# Altium integrated library Header.IntLib: 35 symbols
Pins are listed as number, name and electrical type; pins without a type are passive.

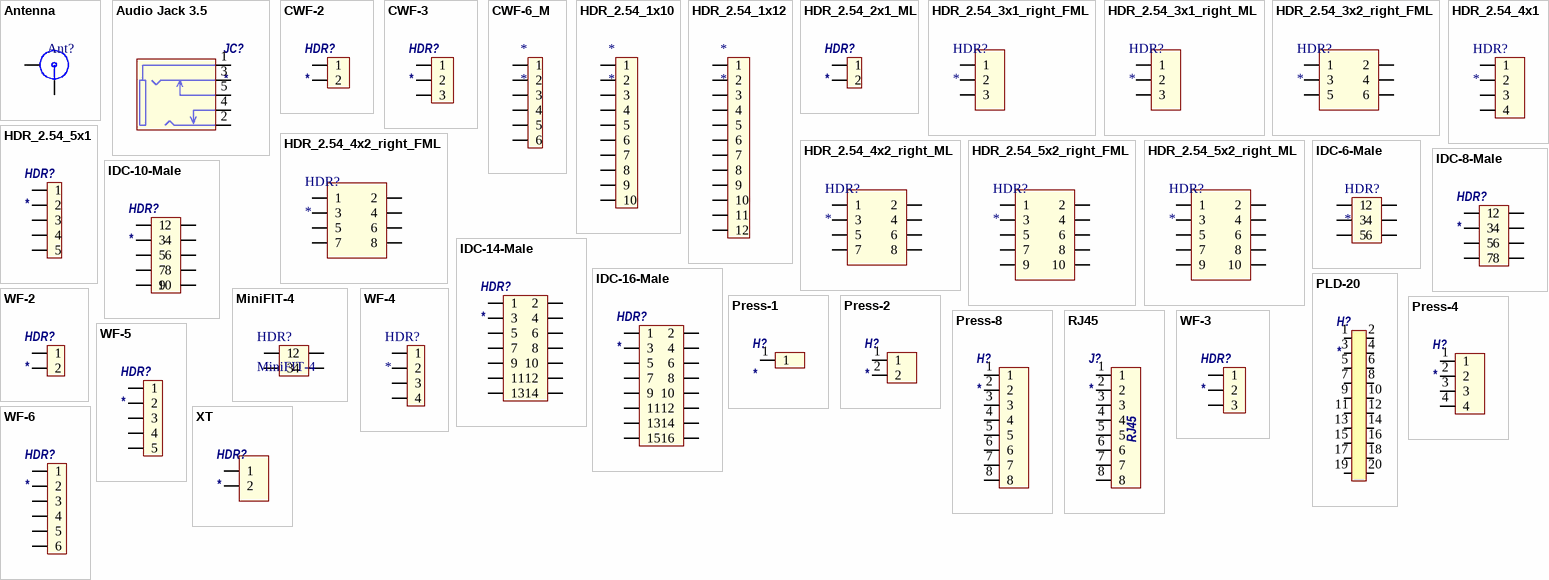
[diagram p0: symbols Antenna to XT]

## Antenna
designator Ant?
footprint SMA-right
footprint SMA-angle
pins: 1, 2

## Audio Jack 3.5
designator JC?
Model: *
footprint ST-214
pins: 1, 2, 3, 4, 5

## CWF-2
designator HDR?
System: Connector; Pitch: 2.5mm
footprint CWF-2
pins: 1, 2

## CWF-3
designator HDR?
System: Connector; Pitch: 2.5mm
footprint CWF-3
pins: 1, 2, 3

## CWF-6_M
designator *
footprint CWF-6_M
pins: 1, 2, 3, 4, 5, 6

## HDR_2.54_1x10
designator *
footprint HDR_2.54_10x1_M
footprint HDR_2.54_10x1_F
pins: 1, 2, 3, 4, 5, 6, 7, 8, 9, 10

## HDR_2.54_1x12
designator *
footprint HDR_2.54_12x1_M
footprint HDR_2.54_12x1_F
pins: 1, 2, 3, 4, 5, 6, 7, 8, 9, 10, 11, 12

## HDR_2.54_2x1_ML
designator HDR?
System: Connector; Pitch: 2.54mm
footprint HDR_2.54_2x1_M
pins: 1, 2

## HDR_2.54_3x1_right_FML
designator HDR?
System: Connector; Pitch: 2.54mm
footprint HDR_2.54_3x1_F
pins: 1, 2, 3

## HDR_2.54_3x1_right_ML
designator HDR?
System: Connector; Pitch: 2.54mm
footprint HDR_2.54_3x1_M
pins: 1, 2, 3

## HDR_2.54_3x2_right_FML
designator HDR?
System: Connector; Pitch: 2.54mm
footprint HDR_2.54_3x2_F
pins: 1, 2, 3, 4, 5, 6

## HDR_2.54_4x1
designator HDR?
System: Connector; Pitch: 2.54mm
footprint HDR_2.54_4x1_M
footprint HDR_2.54_4x1_F
pins: 1, 2, 3, 4

## HDR_2.54_4x2_right_FML
designator HDR?
System: Connector; Pitch: 2.54mm
footprint HDR_2.54_4x2_F
pins: 1, 2, 3, 4, 5, 6, 7, 8

## HDR_2.54_4x2_right_ML
designator HDR?
System: Connector; Pitch: 2.54mm
footprint HDR_2.54_4x2_M
pins: 1, 2, 3, 4, 5, 6, 7, 8

## HDR_2.54_5x1
designator HDR?
System: Connector; Pitch: 2.54mm
footprint HDR_2.54_5x1_M
pins: 1, 2, 3, 4, 5

## HDR_2.54_5x2_right_FML
designator HDR?
System: Connector; Pitch: 2.54mm
footprint HDR_2.54_5x2_F
pins: 1, 2, 3, 4, 5, 6, 7, 8, 9, 10

## HDR_2.54_5x2_right_ML
designator HDR?
System: Connector; Pitch: 2.54mm
footprint HDR_2.54_5x2_M
pins: 1, 2, 3, 4, 5, 6, 7, 8, 9, 10

## IDC-6-Male
designator HDR?
System: Connector
footprint IDC-6M-Right (Connector; IDC, Low Profile Male Header, Thru-Hole; 6 Position; Vertical; Pitch 2.54 mm; Body 15.24 x 9.2 x 9.45 mm (LxWxH))
pins: 1 (power), 2 (power), 3 (power), 4 (power), 5 (power), 6 (power)

## IDC-8-Male
designator HDR?
System: Connector
footprint IDC-8M-RIGHT (Connector; IDC, PCB Transition - 2 Rows, Thru-Hole; 8 Position; Vertical; Pitch 2.54 mm; Body 15.46 x 6.1 x 7.45 mm (LxWxH))
footprint IDC-8M-EDGE (Connector; IDC, PCB Transition - 2 Rows, Thru-Hole; 8 Position; Vertical; Pitch 2.54 mm; Body 15.46 x 6.1 x 7.45 mm (LxWxH))
pins: 1 (power), 2 (power), 3 (power), 4 (power), 5 (power), 6 (power), 7 (power), 8 (power)

## IDC-10-Male
designator HDR?
System: Connector; Pitch: 2.54
footprint IDC-10M-RIGHT (Connector; IDC, PCB Transition - 2 Rows, Thru-Hole; 8 Position; Vertical; Pitch 2.54 mm; Body 15.46 x 6.1 x 7.45 mm (LxWxH))
footprint IDC-10M-ANGLE (Connector; IDC, PCB Transition - 2 Rows, Thru-Hole; 8 Position; Vertical; Pitch 2.54 mm; Body 15.46 x 6.1 x 7.45 mm (LxWxH))
pins: 1 (power), 2 (power), 3 (power), 4 (power), 5 (power), 6 (power), 7 (power), 8 (power), 9 (power), 10 (power)

## IDC-14-Male
designator HDR?
System: Connector; Pitch: 2.54
footprint IDC-14M-Right
pins: 1, 2, 3, 4, 5, 6, 7, 8, 9, 10, 11, 12, 13, 14

## IDC-16-Male
designator HDR?
System: Connector; Pitch: 2.54
footprint IDC-16M-Right
pins: 1, 2, 3, 4, 5, 6, 7, 8, 9, 10, 11, 12, 13, 14, 15, 16

## MiniFIT-4
designator HDR?
footprint MF-4MRA
pins: 1, 2, 3, 4

## PLD-20
designator H?
System: Connector
footprint PLD-20_2.54
footprint PBD-20_2.54
pins: 1, 2, 3, 4, 5, 6, 7, 8, 9, 10, 11, 12, 13, 14, 15, 16, 17, 18, 19, 20

## Press-1
designator H?
Model: *
footprint DG141V (Press claim contact)
pins: 1

## Press-2
designator H?
Model: *
footprint DG141V-2 (Press claim contact)
pins: 1, 2

## Press-4
designator H?
Model: *
footprint DG141V-4 (Press claim contact)
pins: 1, 2, 3, 4

## Press-8
designator H?
Model: *
footprint DG141V-8 (Press claim contact)
pins: 1, 2, 3, 4, 5, 6, 7, 8

## RJ45
designator J?
Model: *
footprint RJ45 DS1125 (Modular Jack Horizontal Shielded 8P8C Tab Down)
pins: 1, 2, 3, 4, 5, 6, 7, 8

## WF-2
designator HDR?
System: Connector; Pitch: 2.54mm
footprint WF-2
pins: 1, 2

## WF-3
designator HDR?
System: Connector; Pitch: 2.54mm
footprint WF-3
pins: 1, 2, 3

## WF-4
designator HDR?
System: Connector; Pitch: 2.54mm
footprint WF-4
pins: 1, 2, 3, 4

## WF-5
designator HDR?
System: Connector; Pitch: 2.54mm
footprint WF-5
pins: 1, 2, 3, 4, 5

## WF-6
designator HDR?
System: Connector; Pitch: 2.54mm
footprint WF-6
pins: 1, 2, 3, 4, 5, 6

## XT
designator HDR?
System: Connector; Pitch: 2.54mm
footprint XT60-F
footprint XT60-M
pins: 1, 2